# EAGLE library part 82C85 (library micro-harris)
MICROCONTROLLER/MEMORY DEVICE
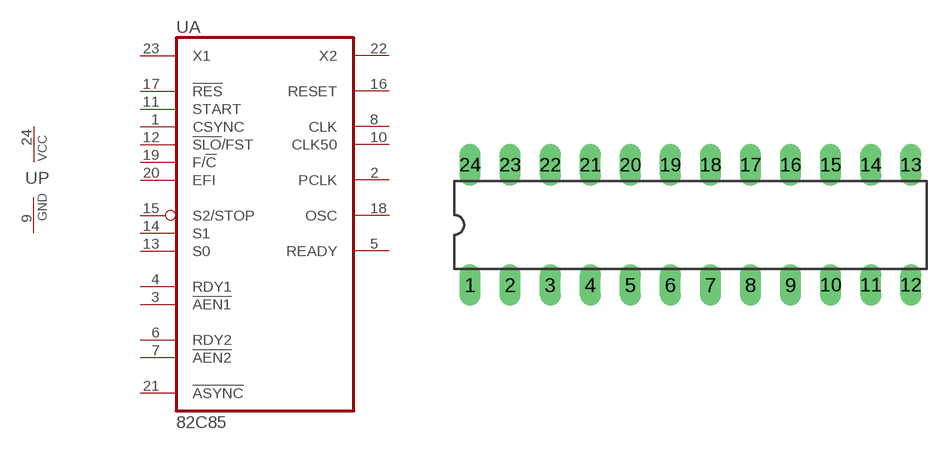
[diagram p27: symbol with the pads of DIL24-3; footprint DIL24-3]

Designator prefix U; gates A=82C85 P=PWRN

## 82C85 (OC_FARNELL: unknown; OC_NEWARK: unknown)  [DIL24-3]
1  A:CSYNC  in
2  A:PCLK  out
3  A:!AEN1  in
4  A:RDY1  in
5  A:READY  out
6  A:RDY2  in
7  A:!AEN2  in
8  A:CLK  out
9  P:GND  pwr
10  A:CLK50  out
11  A:START  in
12  A:!SLO!/FST  in
13  A:S0  in
14  A:S1  in
15  A:S2/STOP  in
16  A:RESET  out
17  A:!RES  in
18  A:OSC  out
19  A:F/!C  in
20  A:EFI  in
21  A:!ASYNC  in
22  A:X2  out
23  A:X1  in
24  P:VCC  pwr

## Footprint DIL24-3 (pad centres in mm)
Dual In Line Package 0.3 inch
drill 0.813 long: 1 -13.97,-3.81; 2 -11.43,-3.81; 3 -8.89,-3.81; 4 -6.35,-3.81; 5 -3.81,-3.81; 6 -1.27,-3.81; 7 1.27,-3.81; 8 3.81,-3.81; 9 6.35,-3.81; 10 8.89,-3.81; 11 11.43,-3.81; 12 13.97,-3.81; 13 13.97,3.81; 14 11.43,3.81; 15 8.89,3.81; 16 6.35,3.81; 17 3.81,3.81; 18 1.27,3.81; 19 -1.27,3.81; 20 -3.81,3.81; 21 -6.35,3.81; 22 -8.89,3.81; 23 -11.43,3.81; 24 -13.97,3.81